# EAGLE library part CPU-1G (library Game Boy)
First Generation Game Boy CPUs (DMG, MGB, SGB)
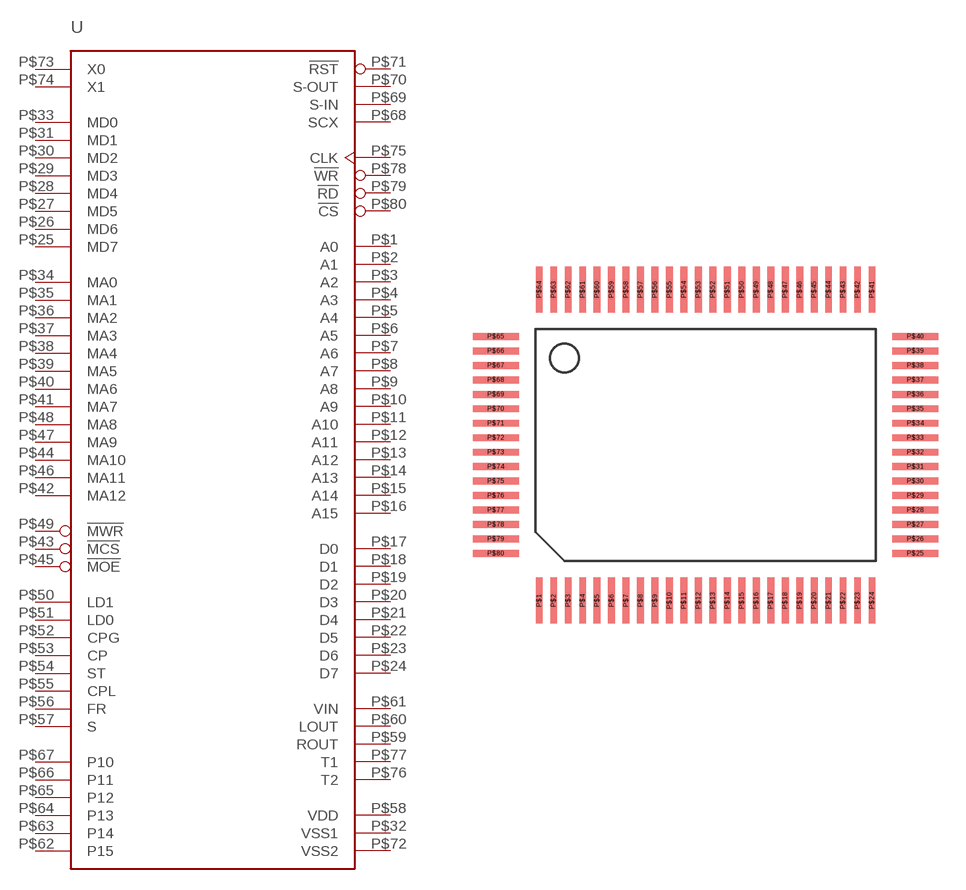
[diagram p4: symbol with the pads of CPU-1G; footprint CPU-1G]

Designator prefix U

## CPU-1GDMG  [CPU-1G]
P$1  A0  out
P$2  A1  out
P$3  A2  out
P$4  A3  out
P$5  A4  out
P$6  A5  out
P$7  A6  out
P$8  A7  out
P$9  A8  out
P$10  A9  out
P$11  A10  out
P$12  A11  out
P$13  A12  out
P$14  A13  out
P$15  A14  out
P$16  A15  out
P$17  D0
P$18  D1
P$19  D2
P$20  D3
P$21  D4
P$22  D5
P$23  D6
P$24  D7
P$25  MD7
P$26  MD6
P$27  MD5
P$28  MD4
P$29  MD3
P$30  MD2
P$31  MD1
P$32  VSS1  pwr
P$33  MD0
P$34  MA0  out
P$35  MA1  out
P$36  MA2  out
P$37  MA3  out
P$38  MA4  out
P$39  MA5  out
P$40  MA6  out
P$41  MA7  out
P$42  MA12  out
P$43  !MCS  out
P$44  MA10  out
P$45  !MOE  out
P$46  MA11  out
P$47  MA9  out
P$48  MA8  out
P$49  !MWR  out
P$50  LD1
P$51  LD0
P$52  CPG
P$53  CP
P$54  ST
P$55  CPL
P$56  FR
P$57  S
P$58  VDD  pwr
P$59  ROUT  out
P$60  LOUT  out
P$61  VIN  in
P$62  P15
P$63  P14
P$64  P13
P$65  P12
P$66  P11
P$67  P10
P$68  SCX
P$69  S-IN  in
P$70  S-OUT  out
P$71  !RST  in
P$72  VSS2  pwr
P$73  X0
P$74  X1
P$75  CLK  out
P$76  T2
P$77  T1
P$78  !WR  out
P$79  !RD  out
P$80  !CS  out

## CPU-1GMGB  [CPU-1G]

## Footprint CPU-1G (pad centres in mm)
smd 0.381 x 2.54: P$1 -9.2,-8.6; P$2 -8.4,-8.6; P$3 -7.6,-8.6; P$4 -6.8,-8.6; P$5 -6,-8.6; P$6 -5.2,-8.6; P$7 -4.4,-8.6; P$8 -3.6,-8.6; P$9 -2.8,-8.6; P$10 -2,-8.6; P$11 -1.2,-8.6; P$12 -0.4,-8.6; P$13 0.4,-8.6; P$14 1.2,-8.6; P$15 2,-8.6; P$16 2.8,-8.6; P$17 3.6,-8.6; P$18 4.4,-8.6; P$19 5.2,-8.6; P$20 6,-8.6; P$21 6.8,-8.6; P$22 7.6,-8.6; P$23 8.4,-8.6; P$24 9.2,-8.6; P$41 9.2,8.6; P$42 8.4,8.6; P$43 7.6,8.6; P$44 6.8,8.6; P$45 6,8.6; P$46 5.2,8.6; P$47 4.4,8.6; P$48 3.6,8.6; P$49 2.8,8.6; P$50 2,8.6; P$51 1.2,8.6; P$52 0.4,8.6; P$53 -0.4,8.6; P$54 -1.2,8.6; P$55 -2,8.6; P$56 -2.8,8.6; P$57 -3.6,8.6; P$58 -4.4,8.6; P$59 -5.2,8.6; P$60 -6,8.6; P$61 -6.8,8.6; P$62 -7.6,8.6; P$63 -8.4,8.6; P$64 -9.2,8.6
smd 2.54 x 0.381: P$25 11.6,-6; P$26 11.6,-5.2; P$27 11.6,-4.4; P$28 11.6,-3.6; P$29 11.6,-2.8; P$30 11.6,-2; P$31 11.6,-1.2; P$32 11.6,-0.4; P$33 11.6,0.4; P$34 11.6,1.2; P$35 11.6,2; P$36 11.6,2.8; P$37 11.6,3.6; P$38 11.6,4.4; P$39 11.6,5.2; P$40 11.6,6; P$65 -11.6,6; P$66 -11.6,5.2; P$67 -11.6,4.4; P$68 -11.6,3.6; P$69 -11.6,2.8; P$70 -11.6,2; P$71 -11.6,1.2; P$72 -11.6,0.4; P$73 -11.6,-0.4; P$74 -11.6,-1.2; P$75 -11.6,-2; P$76 -11.6,-2.8; P$77 -11.6,-3.6; P$78 -11.6,-4.4; P$79 -11.6,-5.2; P$80 -11.6,-6